# EAGLE library part FX8C-100P (library JLB6_Connec)
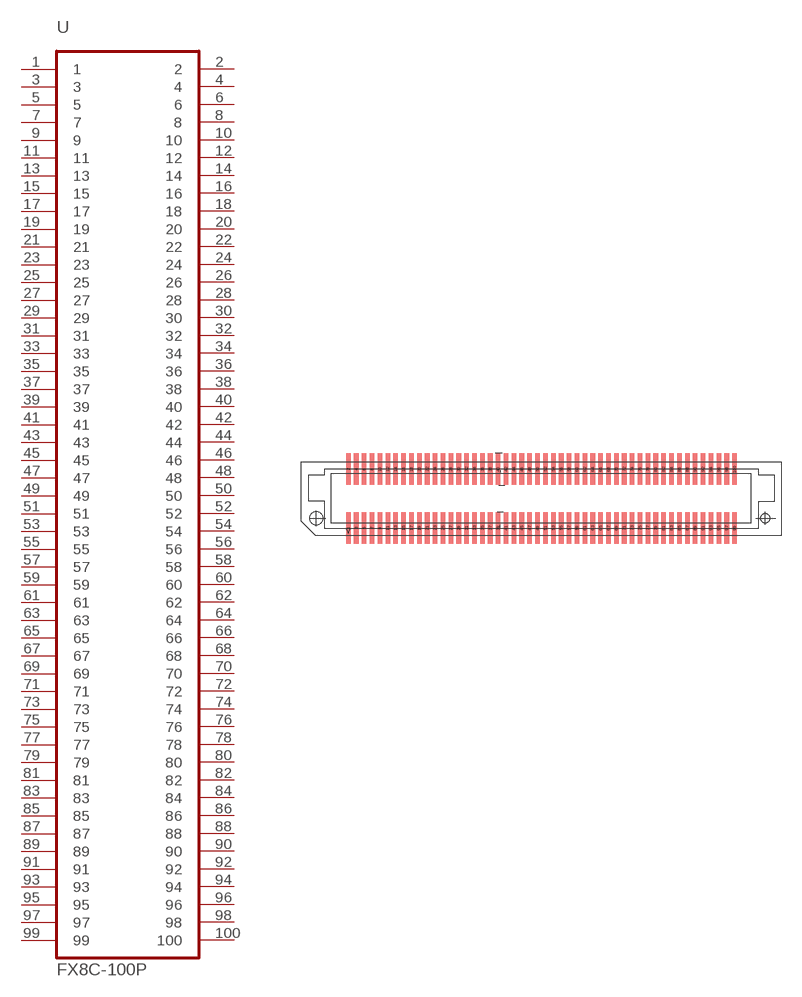
[diagram p49: symbol with the pads of FX8C-100P; footprint FX8C-100P]

Designator prefix -

## FX8C-100P  [FX8C-100P]
1  1
2  2
3  3
4  4
5  5
6  6
7  7
8  8
9  9
10  10
11  11
12  12
13  13
14  14
15  15
16  16
17  17
18  18
19  19
20  20
21  21
22  22
23  23
24  24
25  25
26  26
27  27
28  28
29  29
30  30
31  31
32  32
33  33
34  34
35  35
36  36
37  37
38  38
39  39
40  40
41  41
42  42
43  43
44  44
45  45
46  46
47  47
48  48
49  49
50  50
51  51
52  52
53  53
54  54
55  55
56  56
57  57
58  58
59  59
60  60
61  61
62  62
63  63
64  64
65  65
66  66
67  67
68  68
69  69
70  70
71  71
72  72
73  73
74  74
75  75
76  76
77  77
78  78
79  79
80  80
81  81
82  82
83  83
84  84
85  85
86  86
87  87
88  88
89  89
90  90
91  91
92  92
93  93
94  94
95  95
96  96
97  97
98  98
99  99
100  100

## Footprint FX8C-100P (pad centres in mm)
smd 0.35 x 2.4: 1 -14.7,-2.238; 2 -14.7,2.238; 3 -14.1,-2.238; 4 -14.1,2.238; 5 -13.5,-2.238; 6 -13.5,2.238; 7 -12.9,-2.238; 8 -12.9,2.238; 9 -12.3,-2.238; 10 -12.3,2.238; 11 -11.7,-2.238; 12 -11.7,2.238; 13 -11.1,-2.238; 14 -11.1,2.238; 15 -10.5,-2.238; 16 -10.5,2.238; 17 -9.9,-2.238; 18 -9.9,2.238; 19 -9.3,-2.238; 20 -9.3,2.238; 21 -8.7,-2.238; 22 -8.7,2.238; 23 -8.1,-2.238; 24 -8.1,2.238; 25 -7.5,-2.238; 26 -7.5,2.238; 27 -6.9,-2.238; 28 -6.9,2.238; 29 -6.3,-2.238; 30 -6.3,2.238; 31 -5.7,-2.238; 32 -5.7,2.238; 33 -5.1,-2.238; 34 -5.1,2.238; 35 -4.5,-2.238; 36 -4.5,2.238; 37 -3.9,-2.238; 38 -3.9,2.238; 39 -3.3,-2.238; 40 -3.3,2.238; 41 -2.7,-2.238; 42 -2.7,2.238; 43 -2.1,-2.238; 44 -2.1,2.238; 45 -1.5,-2.238; 46 -1.5,2.238; 47 -0.9,-2.238; 48 -0.9,2.238; 49 -0.3,-2.238; 50 -0.3,2.238; 51 0.3,-2.238; 52 0.3,2.238; 53 0.9,-2.238; 54 0.9,2.238; 55 1.5,-2.238; 56 1.5,2.238; 57 2.1,-2.238; 58 2.1,2.238; 59 2.7,-2.238; 60 2.7,2.238; 61 3.3,-2.238; 62 3.3,2.238; 63 3.9,-2.238; 64 3.9,2.238; 65 4.5,-2.238; 66 4.5,2.238; 67 5.1,-2.238; 68 5.1,2.238; 69 5.7,-2.238; 70 5.7,2.238; 71 6.3,-2.238; 72 6.3,2.238; 73 6.9,-2.238; 74 6.9,2.238; 75 7.5,-2.238; 76 7.5,2.238; 77 8.1,-2.238; 78 8.1,2.238; 79 8.7,-2.238; 80 8.7,2.238; 81 9.3,-2.238; 82 9.3,2.238; 83 9.9,-2.238; 84 9.9,2.238; 85 10.5,-2.238; 86 10.5,2.238; 87 11.1,-2.238; 88 11.1,2.238; 89 11.7,-2.238; 90 11.7,2.238; 91 12.3,-2.238; 92 12.3,2.238; 93 12.9,-2.238; 94 12.9,2.238; 95 13.5,-2.238; 96 13.5,2.238; 97 14.1,-2.238; 98 14.1,2.238; 99 14.7,-2.238; 100 14.7,2.238
hole 0.991 at -17.147,-1.499
hole 0.686 at 17.047,-1.499